# Altium footprint library te_connectivity_audio_video_connectors.PcbLib: 2 footprints
Each footprint in its own frame and in the unit in brackets; x right, y up, seen from the top. Pads: shape width x height; smd on the part's side, far side on the other; paste and mask are expansions set on the pad; w line width, h text height; cw(c..) or ccw(c..) is an arc to the next point about the centre after c.
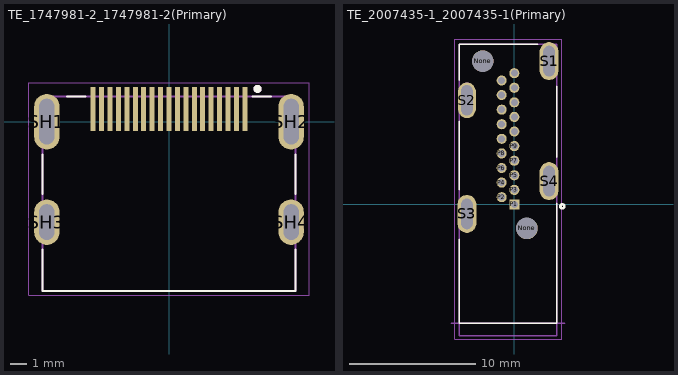
[diagram p0: the footprints below, top view; thin cyan lines are the x and y axes]

## TE_1747981-2_1747981-2(Primary) [mm]
height 6.08
pads (23):
  rect 0.3x2.6 smd: 1(4.5,0.76) 2(4,0.76) 3(3.5,0.76) 4(3,0.76) 5(2.5,0.76) 6(2,0.76) 7(1.5,0.76) 8(1,0.76) 9(0.5,0.76) 10(0,0.76) 11(-0.5,0.76) 12(-1,0.76) 13(-1.5,0.76) 14(-2,0.76) 15(-2.5,0.76) 16(-3,0.76) 17(-3.5,0.76) 18(-4,0.76) 19(-4.5,0.76)
  oval 1.5x3.3 hole 0.9 slot 2.7 at 90 deg: SH1(-7.25,0) SH2(7.25,0)
  oval 1.5x2.7 hole 0.9 slot 2.1 at 90 deg: SH3(-7.25,-5.96) SH4(7.25,-5.96)
Top Overlay:
  circle w0.24: c5.25,1.95 r0.12
  lines w0.127: -7.5,-7.6 -7.5,-10.05 7.5,-10.05 7.5,-7.6 ; -7.5,-4.3 -7.5,-1.95 ; -6.05,1.5 -4.95,1.5 ; 4.95,1.5 6.05,1.5 ; 7.5,-4.3 7.5,-1.95
Board Outline - M1:
  lines w0: -7.7,-6.56 ccw(c-7.25,-6.56) -7.25,-7.01 ccw(c-7.25,-6.56) -6.8,-6.56 -6.8,-5.36 ccw(c-7.25,-5.36) -7.25,-4.91 ccw(c-7.25,-5.36) -7.7,-5.36 -7.7,-6.56 ; -7.7,-0.9 ccw(c-7.25,-0.9) -7.25,-1.35 ccw(c-7.25,-0.9) -6.8,-0.9 -6.8,0.9 ccw(c-7.25,0.9) -7.25,1.35 ccw(c-7.25,0.9) -7.7,0.9 -7.7,-0.9 ; 6.8,-6.56 ccw(c7.25,-6.56) 7.25,-7.01 ccw(c7.25,-6.56) 7.7,-6.56 7.7,-5.36 ccw(c7.25,-5.36) 7.25,-4.91 ccw(c7.25,-5.36) 6.8,-5.36 6.8,-6.56 ; 6.8,-0.9 ccw(c7.25,-0.9) 7.25,-1.35 ccw(c7.25,-0.9) 7.7,-0.9 7.7,0.9 ccw(c7.25,0.9) 7.25,1.35 ccw(c7.25,0.9) 6.8,0.9 6.8,-0.9
Top Fab Assembly - M13:
  circle w0.24: c5.25,1.95 r0.12
  circle w0.24: c5.25,1.95 r0.12
  lines w0.127: -7.5,-10.05 -7.5,1.5 ; -7.5,-10.05 7.5,-10.05 ; -7.5,-10.05 -7.5,1.5 ; -7.5,-10.05 7.5,-10.05 ; -7.5,1.5 7.5,1.5 ; -7.5,1.5 7.5,1.5 ; 7.5,-10.05 7.5,1.5 ; 7.5,-10.05 7.5,1.5
Top Courtyard - M15:
  lines w0.05: -8.33,-10.3 -8.33,2.31 8.33,2.31 8.33,-10.3 -8.33,-10.3
3D body "c-1747981-2-j-3d.stp": height 6.28, standoff -1.3, extent -7.5,-10 7.5,2

## TE_2007435-1_2007435-1(Primary) [mm]
pads (25):
  round 1.7 hole 1.7 unplated: None(-2.5,11.35) None(1,-1.9)
  rect 0.8x0.8 hole 0.55: P1(0,0)
  round 0.8 hole 0.55: P2(-1,0.577) P3(0,1.155) P4(-1,1.733) P5(0,2.31) P6(-1,2.887) P7(0,3.465) P8(-1,4.042) P9(0,4.62) P10(-1,5.198) P11(0,5.775) P12(-1,6.352) P13(0,6.93) P14(-1,7.508) P15(0,8.085) P16(-1,8.662) P17(0,9.24) P18(-1,9.817) P19(0,10.395)
  oval 1.5x3 hole 0.9 slot 2.4 at 90 deg: S1(2.75,11.35) S3(-3.75,-0.75) S4(2.75,1.85)
  oval 1.408x2.816 hole 0.9 slot 2.4 at 90 deg: S2(-3.75,8.25)
Top Overlay:
  circle w0.2: c3.8,-0.15 r0.158
  lines w0.127: -4.35,-2.75 -4.35,-9.4 3.35,-9.4 3.35,0.1 ; -4.35,1.15 -4.35,6.6 ; -4.35,9.85 -4.35,12.7 1.85,12.7 ; 3.35,3.75 3.35,9.35
Board Outline - M1:
  lines w0: -4.2,-1.65 ccw(c-3.75,-1.65) -3.75,-2.1 ccw(c-3.75,-1.65) -3.3,-1.65 -3.3,-0.75 -3.3,0.15 ccw(c-3.75,0.15) -3.75,0.6 ccw(c-3.75,0.15) -4.2,0.15 -4.2,-0.75 -4.2,-1.65 ; -4.2,7.35 ccw(c-3.75,7.35) -3.75,6.9 ccw(c-3.75,7.35) -3.3,7.35 -3.3,8.25 -3.3,9.15 ccw(c-3.75,9.15) -3.75,9.6 ccw(c-3.75,9.15) -4.2,9.15 -4.2,8.25 -4.2,7.35 ; 2.3,0.95 ccw(c2.75,0.95) 2.75,0.5 ccw(c2.75,0.95) 3.2,0.95 3.2,1.85 3.2,2.75 ccw(c2.75,2.75) 2.75,3.2 ccw(c2.75,2.75) 2.3,2.75 2.3,1.85 2.3,0.95 ; 2.3,10.45 ccw(c2.75,10.45) 2.75,10 ccw(c2.75,10.45) 3.2,10.45 3.2,11.35 3.2,12.25 ccw(c2.75,12.25) 2.75,12.7 ccw(c2.75,12.25) 2.3,12.25 2.3,11.35 2.3,10.45
Top Fab Assembly - M13:
  lines w0.127: -4.35,-10.4 -4.35,12.7 ; -4.35,-10.4 3.35,-10.4 ; -4.35,-10.4 -4.35,12.7 ; -4.35,-10.4 3.35,-10.4 ; -4.35,12.7 3.35,12.7 ; -4.35,12.7 3.35,12.7 ; 3.35,-10.4 3.35,12.7 ; 3.35,-10.4 3.35,12.7 ; -5,-9.4 4,-9.4 -5,-9.4
Top Courtyard - M15:
  lines w0.05: -4.7,-10.65 -4.7,8.1 -4.7,13.1 2.75,13.1 3.75,13.1 3.75,1.7 3.75,-10.65 -4.7,-10.65
3D body "c-2007435-1-d-3d.stp": height 17.4, standoff -2.71, extent -4.455,-10.383 3.425,12.693